# Altium schematic symbol library 105848.SCHLIB: 26 symbols
Pins are listed as number, name and electrical type; pins without a type are passive.

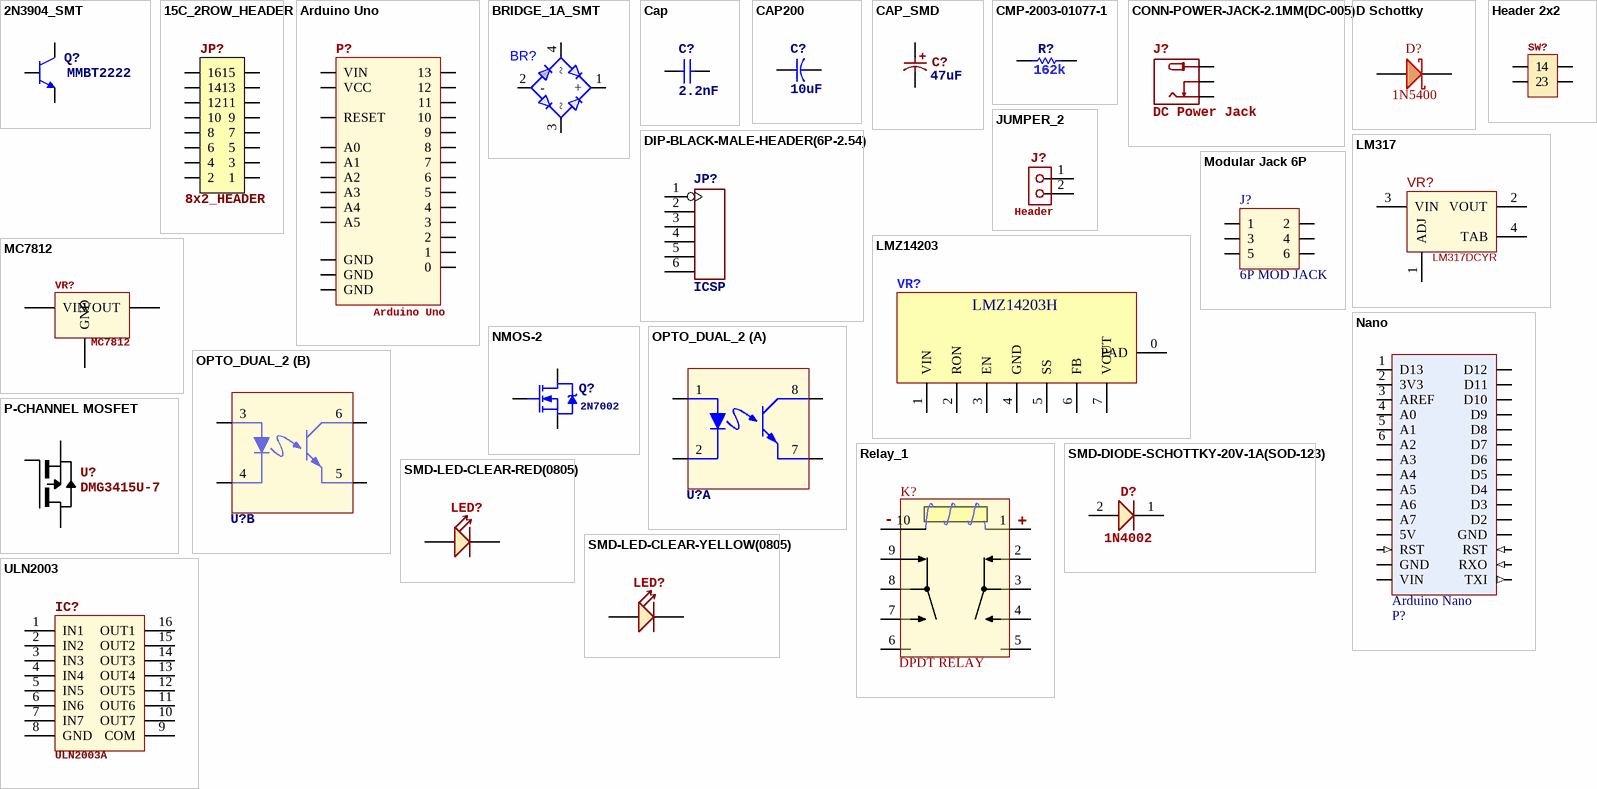
[diagram p0: symbols 2N3904_SMT to ULN2003]

## 2N3904_SMT
designator Q?, comment MMBT2222
NPN Bipolar Transistor; MFR: Fairchild Semi; OriginalName: NPN; MFR P/N: MMBT2222
simulation model SUBCKT
footprint SOT-23_M (SOT23, 3-Leads, Body 2.9x1.3mm, Pitch 0.95mm, Lead Span 2.5mm, IPC Low Density)
pins: 1, 2, 3

## 15C_2ROW_HEADER
designator JP?, comment 8x2_HEADER
footprint HDR2X8 (Connector; Header; 8x2 Position)
pins: 1 "MCLR", 2, 3, 4, 5, 6, 7, 8, 9, 10, 11, 12, 13, 14, 15, 16

## Arduino Uno
designator P?
footprint ArduinoUno
pins: 0, 1, 2, 3, 4, 5, 6, 7, 8, 9, 10, 11, 12, 13, A0, A1, A2, A3, A4, A5, GND, GND1 GND, GND2 GND, RESET, VCC, VIN

## BRIDGE_1A_SMT
designator BR?  (value not drawn)
ComponentField7: Published 8-Jun-2000; Value: *
simulation model SUBCKT
footprint BRIDGE_1A_SMT
pins: 1 +, 2 -, 3 ~, 4 ~

## Cap
designator C?, comment value 2.2nF  (hidden comment: CAP200)
Capacitor; MFR P/N: GRM2165C1H222FA01D; MFR: Murata; Tolerance: 1%
footprint RAD-0.3 (Radial Cap, Thru-Hole; 2 Leads; 0.3 in Pin Spacing)
simulation model CAP (Capacitor)
signal-integrity model Cap
footprint RESC1206(3216)_M (Chip Resistor, Body 3.2x1.6mm, IPC Low Density)
footprint C0805 (Chip Capacitor, Body 2.0x1.3mm, IPC High Density)
footprint C1206 (Chip Capacitor, Body 3.2x1.6mm, IPC High Density)
footprint CAP200
footprint CAPC1206(3216)110_M
pins: 1, 2

## CAP200
designator C?, comment value 10uF  (hidden comment: Cap)
CAP200
footprint CAP200
footprint C1206
footprint CAPC1206(3216)110_M (Chip Capacitor, Body 3.2x1.6mm, Height 1.1mm, IPC Low Density)
pins: 1, 2

## CAP_SMD
designator C?, comment 47uF
MPN: EEH-ZA1V470P; MFR: Panasonic; Tolerance: 20%; Voltage: 35V; ESR: 0.060 Ohm; Value: 47uF
footprint CAP_UC_SMD
footprint RESC1206(3216)_M
pins: 1, 2

## CMP-2003-01077-1
designator R?  value 162k
MFR: Vishay; MFR P/N: CRCW1206162KFKEA; ComponentLink1URL: http://www.mouser.com/ds/2/427/dcrcwe3-109170.pdf; ComponentLink1Description: Datasheet
footprint RESC3216X70X40LL20T20 (Chip Resistor, 2-Leads, Body 3.20x1.60mm, IPC High Density)
footprint RESC3216X70X40NL20T20 (Chip Resistor, 2-Leads, Body 3.20x1.60mm, IPC Medium Density)
footprint RESC3216X70X40ML20T20 (Chip Resistor, 2-Leads, Body 3.20x1.60mm, IPC Low Density)
footprint RES_UNIVERSAL_SM-TH
footprint RESC1206(3216)_N (Chip Resistor, Body 3.2x1.6mm, IPC Medium Density)
footprint RESC1206(3216)_M
pins: 1, 2
1 alternate drawing of the same symbol

## CONN-POWER-JACK-2.1MM(DC-005)
designator J?, comment DC Power Jack
MPN: DC-005
footprint DCJ3P-14.2X11.0X9.0MM
pins: +, -1 -, -2 CDN

## D Schottky
designator D?, comment 1N5400
Schottky Diode; Published: 8-Jun-2000; LatestRevisionDate: 17-Jul-2002; LatestRevisionNote: Re-released for DXP Platform.; PackageReference: SMB; Publisher: Altium Limited; PackageDescription: DO-214-AA/SMB; 2 C-Bend Leads; Body 5.3 x 3.6 mm, inc. leads (LxW); Code_JEDEC: DO-214-AA
footprint SMB (DO-214-AA/SMB; 2 C-Bend Leads; Body 5.3 x 3.6 mm, inc. leads (LxW))
simulation model SKYDIODE (Diode)
signal-integrity model D Schottky
footprint DO-214AC
pins: 1, 2

## DIP-BLACK-MALE-HEADER(6P-2.54)
designator JP?, comment ICSP
DIP-BLACK-MALE-HEADER(6P-2.54); MPN: P125-1106A1BS116A1
footprint HDR1X6 (Connector; Header; 6 Position)
pins: 1, 2, 3, 4, 5, 6

## Header 2x2
designator SW?  (value not drawn)
footprint DPST-4 (Switch; 4 Leads)
pins: 1, 2, 3, 4

## JUMPER_2
designator J?, comment Header
JUMPER_2; Value: *
footprint JMP2
pins: 1, 2

## LM317
designator VR?, comment LM317DCYR
Adjustable Voltage Regulator; MFR: TI; MPN: LM317DCYR; ComponentLink1URL: http://www.ti.com/general/docs/lit/getliterature.tsp?genericPartNumber=tlv1117-50&fileType=pdf; ComponentLink1Description: Datasheet
simulation model SUBCKT
footprint SOT223_M (SOT223, 4-Leads, Body 6.5x3.5mm, Pitch 2.3mm, Lead Span 7mm, IPC Low Density)
pins: 1 ADJ, 2 VOUT, 3 VIN, 4 TAB

## LMZ14203
designator VR?, comment LMZ14203H
SIMPLE SWITCHER 6V to 42V, 3A High Output Voltage Power Module; MFR: TI; MFR P/N: LMZ14203H; PACKAGE: TO-PMOD; ComponentLink1URL: http://www.ti.com/lit/gpn/lmz14203h; ComponentLink1Description: Datasheet
footprint TO_220AB/7 (SMD)
footprint TO-PMOD
pins: 0 PAD (power), 1 VIN (power), 2 RON, 3 EN, 4 GND (power), 5 SS, 6 FB, 7 VOUT (power)

## MC7812
designator VR?
12V Fixed Output Voltage Regulator; MPN: LM317DCYR; MFR: TI; ComponentLink1URL: http://www.ti.com/general/docs/lit/getliterature.tsp?genericPartNumber=tlv1117-50&fileType=pdf; ComponentLink1Description: Datasheet
simulation model SUBCKT
footprint DPAK-3
pins: 1 VIN, 2 GND (power), 3 VOUT

## Modular Jack 6P
designator J?, comment 6P MOD JACK
6 Position Modular Jack Connector
footprint TECO-5520470-3_V (THD, 6-Leads, Body 20.96x13.59mm, Pitch 1.27mm)
pins: 1, 2, 3, 4, 5, 6

## Nano
designator P?, comment Arduino Nano  (value not drawn)
footprint ARDUINO_NANO
pins: 1 D13, 2 3V3 (power), 3 AREF, 4 A0, 5 A1, 6 A2, 7 A3, 8 A4, 9 A5, 10 A6, 11 A7, 12 5V (power), 13 RST (in), 14 GND (power), 15 VIN (power), 16 TXI (out), 17 RXO (in), 18 RST (in), 19 GND (power), 20 D2, 21 D3, 22 D4, 23 D5, 24 D6, 25 D7, 26 D8, 27 D9, 28 D10, 29 D11, 30 D12

## NMOS-2
designator Q?, comment 2N7002
N-Channel MOSFET; Note: Pin 2 is electrically connected to pin 4.; Published: 8-Jun-2000; LatestRevisionDate: 17-Jul-2002; LatestRevisionNote: Re-released for DXP Platform.; DatasheetVersion: PD-9.814; PackageVersion: Feb-1997; PackageReference: TO-220AB; Publisher: Altium Limited; PackageDescription: TO, Thru-Hole, Vertical, Heatsink Mounted; 3 In-Line Leads; Pitch 2.54 mm; ComponentLink1Description: Manufacturer Link; ComponentLink1URL: http://www.irf.com/
footprint SOT-23_M
simulation model IRF1010 (Spice Subcircuit)
pins: 1 G, 2 S, 3 D

## OPTO_DUAL_2
designator U?, comment DUAL OPTO  (value not drawn)
DUAL OPTO ISOLATOR; MFR PART: ILD207T; ComponentLink1Description: Datasheet; ComponentLink1URL: http://www.vishay.com/docs/83647/ild205t.pdf
footprint SO8_N (SOIC, 8-Leads, Body 4.9x3.9mm, Pitch 1.27mm, IPC Medium Density)
part A pins: 1 A1, 2 C1, 7 E1, 8 COL1
part B pins: 3 A2, 4 C2, 5 E2, 6 COL2

## P-CHANNEL MOSFET
designator U?, comment MPN: DMG3415U-7  (hidden comment: MOSFET P-CHANNEL)
MFR: DIODES, INC.; ComponentLink1Description: Datasheet; ComponentLink1URL: https://www.diodes.com/assets/Datasheets/ds31735.pdf
footprint SOT-23_M (SOT23, 3-Leads, Body 2.9x1.3mm, Pitch 0.95mm, Lead Span 2.5mm, IPC Low Density)
pins: 1, 2 "SOURCE", 3

## Relay_1
designator K?, comment DPDT RELAY
AZ850-5; Part Number: 101671; ComponentLink1Description: Datasheet; ComponentLink1URL: http://www.azettler.com/pdfs/az850.pdf
footprint AZ_940
pins: 1 V+, 2 N/C, 3 COM, 4 N/O, 5, 6, 7 N/O, 8 COM, 9 N/C, 10 V-
text: -; +

## SMD-DIODE-SCHOTTKY-20V-1A(SOD-123)
designator D?, comment 1N4002
MPN: B5819W
footprint SOD-123
footprint SMB (DO-214-AA/SMB; 2 C-Bend Leads; Body 5.3 x 3.6 mm, inc. leads (LxW))
footprint DO-214AC
footprint DO-214AA
pins: 1, 2

## SMD-LED-CLEAR-RED(0805)
designator LED?, comment LED  (value not drawn)
MPN: 17-215SURC/S530-A2/TR8
footprint LED-0805
pins: +, -

## SMD-LED-CLEAR-YELLOW(0805)
designator LED?, comment LED  (value not drawn)
MPN: 17-215UYC/S530-A3/TR8
footprint LED-0805
pins: +, -

## ULN2003
designator IC?, comment ULN2003A
ULN2003; MFR P/N: ULN2003; ComponentLink1Description: Datasheet; ComponentLink1URL: https://www.diodes.com/assets/Datasheets/ULN200xA.pdf
footprint SO-16_M (SOIC, 16-Leads, Body 9.9x3.9mm, Pitch 1.27mm, IPC Low Density)
pins: 1 IN1, 2 IN2, 3 IN3, 4 IN4, 5 IN5, 6 IN6, 7 IN7, 8 GND, 9 COM, 10 OUT7, 11 OUT6, 12 OUT5, 13 OUT4, 14 OUT3, 15 OUT2, 16 OUT1